# EAGLE library part TXS0102DQER (library Quad_Cape)
IC TRANSLATOR VOLTAGE 8-X2SON
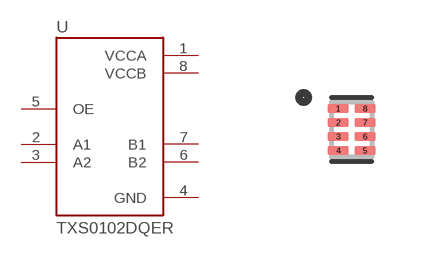
[diagram p4: symbol with the pads of VOLTAGETRANSLATOR_TXS0102DQER; footprint VOLTAGETRANSLATOR_TXS0102DQER]

Designator prefix U

## TXS0102DQER (AVAILABILITY: Unavailable; DESCRIPTION: 2-Bit Bidirectional Voltage-Level Shifter for Open-Drain and Push-Pull Application 8-X2SON -40 to 85; MF: Texas Instruments; MP: TXS0102DQER; PACKAGE: XFDFN-8 Texas Instruments; PRICE: None)  [VOLTAGETRANSLATOR_TXS0102DQER]
1  VCCA  pwr
2  A1
3  A2
4  GND  pwr
5  OE  in
6  B2
7  B1
8  VCCB  pwr

## Footprint VOLTAGETRANSLATOR_TXS0102DQER (pad centres in mm)
smd 0.53 x 0.2: 1 -0.335,0.525; 2 -0.335,0.175; 3 -0.335,-0.175; 4 -0.335,-0.525; 5 0.335,-0.525; 6 0.335,-0.175; 7 0.335,0.175; 8 0.335,0.525